# Altium integrated library CDSOD323-T05LC.IntLib: 1 symbol
Pins are listed as number, name and electrical type; pins without a type are passive.

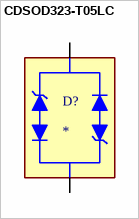
[diagram p0: symbol CDSOD323-T05LC]

## CDSOD323-T05LC
designator D?
A 05V, 350W, bi-directional, low capacitance, SOD323 pkg TVS Diode | Bourns CDSOD323-T05LC; SnapEDA_Link: https://www.snapeda.com/parts/CDSOD323-T05LC/Bourns/view-part/?ref=snap; Package: SOD-323 Bourns; Value: *; MF: Bourns; MP: CDSOD323-T05LC; Check_prices: https://www.snapeda.com/parts/CDSOD323-T05LC/Bourns/view-part/?ref=eda
footprint SOD2513X114N
pins: 1, 2